# Altium footprint library AMS1117 Breakout Board.PcbLib: 1 footprints
Each footprint in its own frame and in the unit in brackets; x right, y up, seen from the top. Pads: shape width x height; smd on the part's side, far side on the other; paste and mask are expansions set on the pad; w line width, h text height; cw(c..) or ccw(c..) is an arc to the next point about the centre after c.
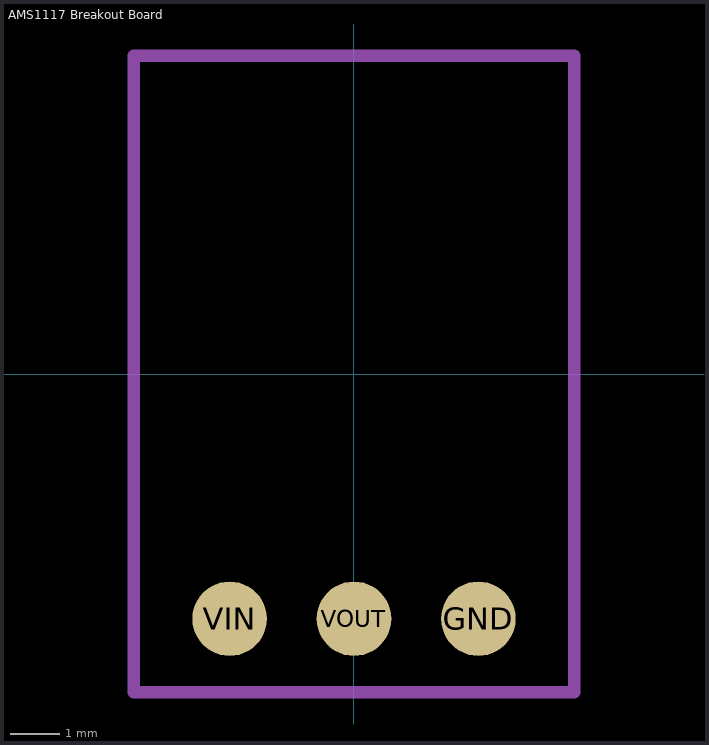
[diagram p0: the footprint, top view; thin cyan lines are the x and y axes]

## AMS1117 Breakout Board [mil]
pads (3):
  round 60 smd: GND(100,-196.85) VIN(-100,-196.85) VOUT(0,-196.85)
Mechanical 1:
  lines w10: -177.17,-255.91 177.17,-255.91 177.17,255.91 -177.17,255.91 -177.17,-255.91